# Altium footprint library diode.PCBLIB: 206 footprints (part 12 of 13)
Each footprint in its own frame and in the unit in brackets; x right, y up, seen from the top. Pads: shape width x height; smd on the part's side, far side on the other; paste and mask are expansions set on the pad; w line width, h text height; cw(c..) or ccw(c..) is an arc to the next point about the centre after c.
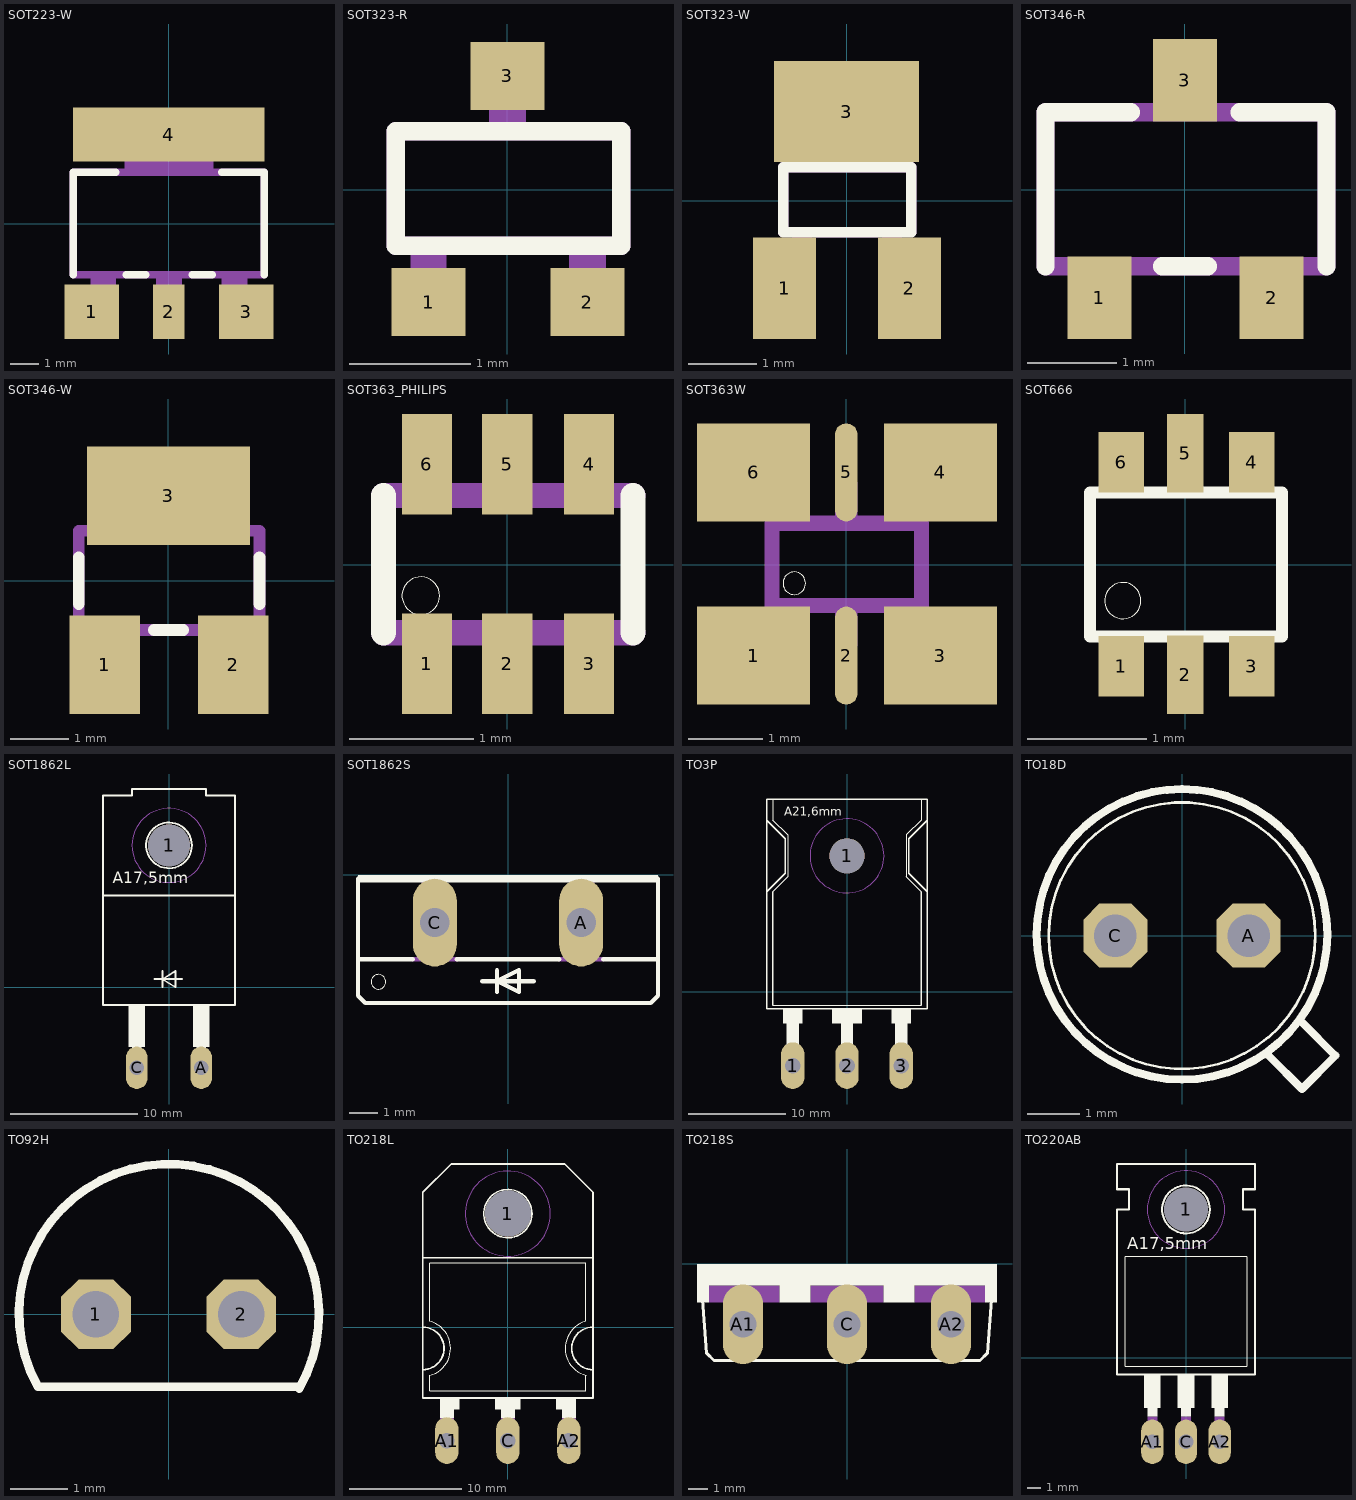
[diagram p11: the footprints below, top view; thin cyan lines are the x and y axes]

## SOT223-W [mil]
pads (4):
  rect 75x75 smd: 1(-106.3,-122.05) 3(107,-122.05)
  rect 44x75 smd: 2(0,-122.05)
  rect 264x75 smd: 4(0,123)
Top Overlay:
  lines w10: -131.89,-70.87 -131.89,71 -72.83,71 ; -59.06,-70.87 -31.5,-70.87 ; 32,-70.87 60,-70.87 ; 73,71 132,71 132,-70.87
Mechanical 2:
  text ">NAME" at -127.95,168 h77.5
Mechanical 4:
  text ">VALUE" at -116.14,-21.65 h77.5
Mechanical 16:
  rectangle: -108.27,-135.83 -72.83,-74.8
  rectangle: -17.72,-135.83 18,-74.8
  rectangle: 73,-135.83 109,-74.8
  rectangle: -61.02,75 62,136
  lines w10: -131.89,-70.87 -131.89,71 132,71 132,-70.87 -131.89,-70.87

## SOT323-R [mil]
pads (3):
  rect 24x22 smd: 1(-25.59,-36.42) 2(26,-36.42) 3(0,37)
Top Overlay:
  lines w6: -36.31,-18.13 37,-18.13 37,19 -36.31,19 -36.31,-18.13
Mechanical 2:
  text ">NAME" at -39.37,52 h77.5
Mechanical 4:
  text ">VALUE" at -39.37,-102.36 h77.5
Mechanical 16:
  rectangle: -31.5,-43.31 -19.68,-19.68
  rectangle: 20,-43.31 32,-19.68
  rectangle: -5.91,20 6,44
  lines w6: -36.31,-18.13 37,-18.13 37,19 -36.31,19 -36.31,-18.13

## SOT323-W [mil]
pads (3):
  rect 36x58 smd: 1(-35.43,-50.2) 2(36,-50.2)
  rect 83x58 smd: 3(0,51)
Top Overlay:
  lines w6: -36.31,-18.13 37,-18.13 37,19 -36.31,19 -36.31,-18.13
Mechanical 2:
  text ">NAME" at -39.37,87 h77.5
Mechanical 4:
  text ">VALUE" at -39.37,-131.89 h77.5
Mechanical 16:
  rectangle: -31.5,-43.31 -19.68,-19.68
  rectangle: 20,-43.31 32,-19.68
  rectangle: -5.91,20 6,44
  lines w6: -36.31,-18.13 37,-18.13 37,19 -36.31,19 -36.31,-18.13

## SOT346-R [mil]
pads (3):
  rect 28x36 smd: 1(-37.4,-47.24) 2(38,-47.24) 3(0,48)
Top Overlay:
  lines w8: -61.02,-33.46 -61.02,34 -23.62,34 ; -9.84,-33.46 10,-33.46 ; 24,34 62,34 62,-33.46
Mechanical 2:
  text ">NAME" at -64.96,73 h77.5
Mechanical 4:
  text ">VALUE" at -64.96,-122.05 h77.5
Mechanical 16:
  rectangle: -45.28,-59.06 -29.53,-37.4
  rectangle: 30,-59.06 46,-37.4
  rectangle: -7.87,38 8,60
  lines w8: -61.02,-33.46 62,-33.46 62,34 -61.02,34 -61.02,-33.46

## SOT346-W [mil]
pads (3):
  rect 48x67 smd: 1(-43.31,-57.09) 2(44,-57.09)
  rect 111x67 smd: 3(0,58)
Top Overlay:
  lines w8: -61.02,-15.75 -61.02,16 ; -9.84,-33.46 10,-33.46 ; 62,-15.75 62,16
Mechanical 2:
  text ">NAME" at -64.96,99 h77.5
Mechanical 4:
  text ">VALUE" at -64.96,-149.61 h77.5
Mechanical 16:
  rectangle: -45.28,-59.06 -29.53,-37.4
  rectangle: 30,-59.06 46,-37.4
  rectangle: -7.87,38 8,60
  lines w8: -61.02,-33.46 62,-33.46 62,34 -61.02,34 -61.02,-33.46

## SOT363_PHILIPS [mil]
pads (6):
  rect 16x32 smd: 1(-25.59,-31.5) 2(0,-31.5) 3(26,-31.5) 4(26,32) 5(0,32) 6(-25.59,32)
Top Overlay:
  circle w0: c-27.56,-9.84 r6
  lines w8: -39.37,-21.65 -39.37,22 ; 40,-21.65 40,22
Mechanical 2:
  text ">NAME" at -43.31,58 h77.5
Mechanical 4:
  text ">VALUE" at -43.31,-106.3 h77.5
Mechanical 16:
  rectangle: -31.5,-43.31 -19.68,-23.62
  rectangle: -5.91,-43.31 6,-23.62
  rectangle: 20,-43.31 32,-23.62
  rectangle: 20,24 32,44
  rectangle: -5.91,24 6,44
  rectangle: -31.5,24 -19.68,44
  lines w8: -39.37,-21.65 40,-21.65 ; -39.37,22 40,22

## SOT363W [mil]
pads (6):
  rect 60x52 smd: 1(-49.21,-48.23) 3(50,-48.23) 4(50,49) 6(-49.21,49)
  rrect100% 12x52 smd: 2(0,-48.23) 5(0,49)
Top Overlay:
  circle w0: c-27.56,-9.84 r6
Mechanical 2:
  text ">NAME" at -78.74,79 h77.5
Mechanical 4:
  text ">VALUE" at -78.74,-137.8 h77.5
Mechanical 16:
  rectangle: -31.5,-43.31 -19.68,-23.62
  rectangle: -5.91,-43.31 6,-23.62
  rectangle: 20,-43.31 32,-23.62
  rectangle: 20,24 32,44
  rectangle: -5.91,24 6,44
  rectangle: -31.5,24 -19.68,44
  lines w8: -39.37,-21.65 40,-21.65 40,22 -39.37,22 -39.37,-21.65

## SOT666 [mil]
pads (6):
  rect 15x20 smd: 1(-21.14,-33.46) 3(22,-33.46) 4(22,34) 6(-21.18,34)
  rect 12x26 smd: 2(0,-36.34) 5(0,37)
Top Overlay:
  circle w0: c-20.67,-11.81 r6
  lines w4: -31.5,-23.62 32,-23.62 32,24 -31.5,24 -31.5,-23.62
Mechanical 2:
  text ">NAME" at -50,50 h77.5
Mechanical 4:
  text ">VALUE" at -50,-100 h77.5
Mechanical 16:
  region: -14.76,-33.46 -14.76,-24.61 -24.61,-24.61 -24.61,-33.46
  region: 5.21,-33.75 5.21,-24.32 -4.64,-24.32 -4.64,-33.75
  region: 25.42,-33.54 25.42,-24.54 15.58,-24.54 15.58,-33.54
  region: 16,34 16,25 25,25 25,34
  region: -4.21,34.21 -4.21,24.79 4.79,24.79 4.79,34.21
  region: -24.19,33.93 -24.19,25.07 -15.19,25.07 -15.19,33.93

## SOT1862L [mil]
pads (3):
  round 130 hole 130: 1(0,440)
  oval 66x132 hole 44: A(100,-250) C(-100,-250)
Top Overlay:
  circle w6: c0,440 r71
  rectangle: -125,-185 -75,-55
  rectangle: 75,-185 125,-55
  rectangle: 85,-190 115,-185
  rectangle: -115,-190 -85,-185
  lines w6: -45,25 -20,25 ; -20,0 -20,25 ; -20,50 -20,25 ; 40,25 -20,25 ; -205,285 -205,-55 205,-55 205,285 ; -205,285 205,285 ; -205,285 -205,595 -115,595 -115,615 115,615 115,595 205,595 205,285 ; -20,25 20,0 20,50 -20,25
  text "A17,5mm" at -175,310 h60.45
Mechanical 2:
  text ">NAME" at -150,175 h108.5
Mechanical 4:
  text ">VALUE" at -150,75 h108.5
Mechanical 9:
  circle w0: c0,440 r115
Mechanical 10:
  circle w0: c0,440 r115
Mechanical 16:
  rectangle: 85,-255 115,-190
  rectangle: -115,-255 -85,-190

## SOT1862S [mil]
pads (2):
  oval 60x120 hole 40: A(100,-65) C(-100,-65)
Top Overlay:
  circle w0: c-177,-146 r10
  rectangle: -205,-10 205,0
  lines w6: -205,-5 -205,-115 ; -130,-115 -205,-115 ; -70,-115 70,-115 ; -35,-145 -15,-145 ; -15,-160 -15,-145 ; -15,-130 -15,-145 ; 35,-145 -15,-145 ; 130,-115 205,-115 ; 205,-5 205,-115 ; -205,-115 -205,-165 -195,-175 195,-175 205,-165 205,-115 ; -15,-145 15,-130 15,-160 -15,-145
Mechanical 2:
  text ">NAME" at -200,-238 h77.5
Mechanical 4:
  text ">VALUE" at -200,-300 h77.5
Mechanical 16:
  lines w6: -130,-115 -115,-115 ; -115,-5 -115,-115 ; -70,-115 -115,-115 ; 70,-115 115,-115 ; 115,-5 115,-115 ; 130,-115 115,-115

## TO3P [mil]
pads (4):
  oval 94.5x189 hole 63: 1(-220,-300) 2(0,-300) 3(220,-300)
  round 142 hole 142: 1(0,550)
Top Overlay:
  circle w6: c0,550 r65
  rectangle: -60,-130 60,-70
  rectangle: 180,-130 260,-70
  rectangle: -25,-220 25,-130
  rectangle: 195,-220 245,-130
  rectangle: -260,-130 -180,-70
  rectangle: -245,-220 -195,-130
  lines w2: -300,-55 300,-55 ; -300,405 -240,465 -240,635 -300,695 -300,780 ; 300,405 240,465 240,635 300,695 300,780
  lines w6: -300,-55 -300,405 ; 300,-55 300,405 ; -325,405 -325,-70 325,-70 325,405 ; -325,405 -250,480 -250,620 -325,695 ; -325,405 -325,695 ; -325,695 -325,780 -300,780 300,780 325,780 325,695 ; 325,405 325,695 ; 325,405 250,480 250,620 325,695
  text "A21,6mm" at -255,700 h60.45
Mechanical 2:
  text ">NAME" at -340,-70 h108.5
Mechanical 4:
  text ">VALUE" at -200,100 h108.5
Mechanical 9:
  circle w0: c0,550 r150
Mechanical 10:
  circle w0: c0,550 r150
Mechanical 16:
  rectangle: -245,-295 -195,-220
  rectangle: -25,-295 25,-220
  rectangle: 195,-295 245,-220

## TO18D [mil]
pads (2):
  oct 48x48 hole 32: A(50,0) C(-50,0)
Top Overlay:
  circle w6: c0,1 r109
  circle w2: c0,0 r100
  lines w6: 65,-90 90,-115 115,-90 90,-65
Mechanical 2:
  text ">NAME" at 125,30 h77.5
Mechanical 4:
  text ">VALUE" at 125,-45 h77.5

## TO92H [mil]
pads (2):
  oct 48x48 hole 32: 1(-50,0) 2(50,0)
Top Overlay:
  lines w6: 90,-51.08 ccw(c0.3,0.17) -90,-50 90,-50
Mechanical 2:
  text ">NAME" at 125,25 h77.5
Mechanical 4:
  text ">VALUE" at 125,-50 h77.5

## TO218L [mil]
pads (4):
  round 162 hole 162: 1(0,400)
  oval 82.5x165 hole 55: A1(-215,-400) A2(215,-400) C(0,-400)
Top Overlay:
  circle w6: c0,400 r85
  rectangle: -240,-290 -170,-250
  rectangle: 170,-290 240,-250
  rectangle: -45,-290 45,-250
  rectangle: -240,-320 -190,-250
  rectangle: -25,-320 25,-250
  rectangle: 190,-320 240,-250
  lines w2: 274,20 ccw(c300.69,-74.73) 276,-169.99 ; 275,-170 275,-225 -275,-225 -275,-170 ccw(c-300,-75) -275,20 -275,225 275,225 275,20
  lines w6: -300,-150 -300,-250 300,-250 300,-150 ; -300,-150 -300,0 ; -300,-150 ccw(c-300,-75) -300,0 ; -300,0 -300,245 ; -300,245 300,245 ; -300,245 -300,475 -200,575 200,575 300,475 300,245 ; 300,-150 300,0 ; 300,-150 cw(c300,-75) 300,0 ; 300,0 300,245
Mechanical 2:
  text ">NAME" at -320,-240 h108.5
Mechanical 4:
  text ">VALUE" at -200,0 h108.5
Mechanical 9:
  circle w0: c0,400 r150
Mechanical 10:
  circle w0: c0,400 r150
Mechanical 16:
  rectangle: -240,-405 -190,-320
  rectangle: -25,-405 25,-320
  rectangle: 190,-405 240,-320

## TO218S [mil]
pads (3):
  oval 82.5x165 hole 55: A1(-215,-125) A2(215,-125) C(0,-125)
Top Overlay:
  rectangle: -310,-45 310,0
  rectangle: -140,-80 -75,-45
  rectangle: 75,-80 140,-45
  rectangle: -310,-80 -285,-45
  rectangle: 285,-80 310,-45
  lines w6: -300,-60 -290,-185 -275,-200 275,-200 290,-185 300,-60
Mechanical 2:
  text ">NAME" at -300,-265 h77.5
Mechanical 4:
  text ">VALUE" at -55,-265 h77.5
Mechanical 16:
  rectangle: 140,-80 285,-45
  rectangle: -285,-80 -140,-45
  rectangle: -75,-80 75,-45

## TO220AB [mil]
pads (4):
  round 130 hole 130: 1(0,440)
  oval 66x132 hole 44: A1(-100,-250) A2(100,-250) C(0,-250)
Top Overlay:
  circle w6: c0,440 r71
  rectangle: 85,-175 115,-150
  rectangle: -15,-175 15,-150
  rectangle: -115,-175 -85,-150
  rectangle: -125,-150 -75,-50
  rectangle: -25,-150 25,-50
  rectangle: 75,-150 125,-50
  lines w2: -180,-25 180,-25 180,300 -180,300 -180,-25
  lines w6: -205,-50 205,-50 205,440 170,440 170,500 205,500 205,575 -205,575 -205,500 -170,500 -170,440 -205,440 -205,-50
  text "A17,5mm" at -175,310 h60.45
Mechanical 2:
  text ">NAME" at -215,-50 h108.5
Mechanical 4:
  text ">VALUE" at -155,100 h108.5
Mechanical 9:
  circle w0: c0,440 r115
Mechanical 10:
  circle w0: c0,440 r115
Mechanical 16:
  rectangle: 85,-250 115,-175
  rectangle: -15,-250 15,-175
  rectangle: -115,-250 -85,-175